# EAGLE library part IS61LV12824 (library F030NG)
128K x 24 HIGH-SPEED CMOS STATIC RAM with 3.3V supply by ISSI
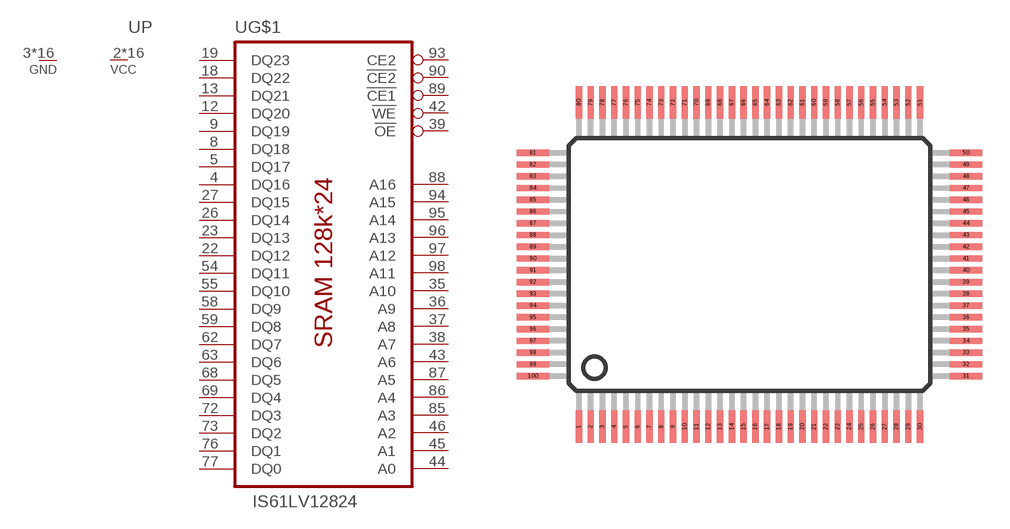
[diagram p68: symbol with the pads of PQFP100; footprint PQFP100]

Designator prefix U; gates G$1=RAM128KX24 P=1VCC_1GND

## IS61LV12824  [PQFP100]
2  P:VCC  pwr
3  P:GND  pwr
4  G$1:DQ16
5  G$1:DQ17
6  P:GND  pwr
7  P:VCC  pwr
8  G$1:DQ18
9  G$1:DQ19
10  P:GND  pwr
11  P:VCC  pwr
12  G$1:DQ20
13  G$1:DQ21
14  P:VCC  pwr
17  P:GND  pwr
18  G$1:DQ22
19  G$1:DQ23
20  P:VCC  pwr
21  P:GND  pwr
22  G$1:DQ12
23  G$1:DQ13
24  P:VCC  pwr
25  P:GND  pwr
26  G$1:DQ14
27  G$1:DQ15
28  P:VCC  pwr
29  P:GND  pwr
35  G$1:A10  in
36  G$1:A9  in
37  G$1:A8  in
38  G$1:A7  in
39  G$1:!OE  in
40  P:GND  pwr
41  P:VCC  pwr
42  G$1:!WE  in
43  G$1:A6  in
44  G$1:A0  in
45  G$1:A1  in
46  G$1:A2  in
52  P:GND  pwr
53  P:VCC  pwr
54  G$1:DQ11
55  G$1:DQ10
56  P:GND  pwr
57  P:VCC  pwr
58  G$1:DQ9
59  G$1:DQ8
60  P:GND  pwr
61  P:VCC  pwr
62  G$1:DQ7
63  G$1:DQ6
64  P:GND  pwr
67  P:VCC  pwr
68  G$1:DQ5
69  G$1:DQ4
70  P:VCC  pwr
71  P:GND  pwr
72  G$1:DQ3
73  G$1:DQ2
74  P:VCC  pwr
75  P:GND  pwr
76  G$1:DQ1
77  G$1:DQ0
78  P:GND  pwr
79  P:VCC  pwr
85  G$1:A3  in
86  G$1:A4  in
87  G$1:A5  in
88  G$1:A16  in
89  G$1:!CE1  in
90  G$1:!CE2  in
91  P:GND  pwr
92  P:VCC  pwr
93  G$1:CE2  in
94  G$1:A15  in
95  G$1:A14  in
96  G$1:A13  in
97  G$1:A12  in
98  G$1:A11  in

## Footprint PQFP100 (pad centres in mm)
smd 0.35 x 1.8: 1 -9.425,-8.965; 2 -8.775,-8.965; 3 -8.125,-8.965; 4 -7.475,-8.965; 5 -6.825,-8.965; 6 -6.175,-8.965; 7 -5.525,-8.965; 8 -4.875,-8.965; 9 -4.225,-8.965; 10 -3.575,-8.965; 11 -2.925,-8.965; 12 -2.275,-8.965; 13 -1.625,-8.965; 14 -0.975,-8.965; 15 -0.325,-8.965; 16 0.325,-8.965; 17 0.975,-8.965; 18 1.625,-8.965; 19 2.275,-8.965; 20 2.925,-8.965; 21 3.575,-8.965; 22 4.225,-8.965; 23 4.875,-8.965; 24 5.525,-8.965; 25 6.175,-8.965; 26 6.825,-8.965; 27 7.475,-8.965; 28 8.125,-8.965; 29 8.775,-8.965; 30 9.425,-8.965; 51 9.425,8.965; 52 8.775,8.965; 53 8.125,8.965; 54 7.475,8.965; 55 6.825,8.965; 56 6.175,8.965; 57 5.525,8.965; 58 4.875,8.965; 59 4.225,8.965; 60 3.575,8.965; 61 2.925,8.965; 62 2.275,8.965; 63 1.625,8.965; 64 0.975,8.965; 65 0.325,8.965; 66 -0.325,8.965; 67 -0.975,8.965; 68 -1.625,8.965; 69 -2.275,8.965; 70 -2.925,8.965; 71 -3.575,8.965; 72 -4.225,8.965; 73 -4.875,8.965; 74 -5.525,8.965; 75 -6.175,8.965; 76 -6.825,8.965; 77 -7.475,8.965; 78 -8.125,8.965; 79 -8.775,8.965; 80 -9.425,8.965
smd 1.8 x 0.35: 31 11.965,-6.175; 32 11.965,-5.525; 33 11.965,-4.875; 34 11.965,-4.225; 35 11.965,-3.575; 36 11.965,-2.925; 37 11.965,-2.275; 38 11.965,-1.625; 39 11.965,-0.975; 40 11.965,-0.325; 41 11.965,0.325; 42 11.965,0.975; 43 11.965,1.625; 44 11.965,2.275; 45 11.965,2.925; 46 11.965,3.575; 47 11.965,4.225; 48 11.965,4.875; 49 11.965,5.525; 50 11.965,6.175; 81 -11.965,6.175; 82 -11.965,5.525; 83 -11.965,4.875; 84 -11.965,4.225; 85 -11.965,3.575; 86 -11.965,2.925; 87 -11.965,2.275; 88 -11.965,1.625; 89 -11.965,0.975; 90 -11.965,0.325; 91 -11.965,-0.325; 92 -11.965,-0.975; 93 -11.965,-1.625; 94 -11.965,-2.275; 95 -11.965,-2.925; 96 -11.965,-3.575; 97 -11.965,-4.225; 98 -11.965,-4.875; 99 -11.965,-5.525; 100 -11.965,-6.175